# Altium schematic symbol library USB3_9Pin.Schlib: 1 symbol
Pins are listed as number, name and electrical type; pins without a type are passive.

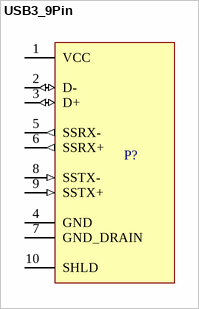
[diagram p0: symbol USB3_9Pin]

## USB3_9Pin
designator P?
USB 3.0 3.1 3.2
pins: 1 VCC (power), 2 D- (io), 3 D+ (io), 4 GND (power), 5 SSRX- (out), 6 SSRX+ (out), 7 GND_DRAIN (power), 8 SSTX- (in), 9 SSTX+ (in), 10 SHLD